# Altium schematic symbol library ADTSM61RVTR.SchLib: 1 symbol
Pins are listed as number, name and electrical type; pins without a type are passive.

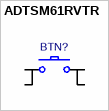
[diagram p0: symbol ADTSM61RVTR]

## ADTSM61RVTR
designator BTN?  (value not drawn)
ADTSM61RVTR; Value: ADTSM61RVTR
footprint 6X6-SMT
pins: 1, 2, 3, 4